# EAGLE library part 2287402-1 (library LGA1151)
Conn LGA Socket SKT 1151 POS 0.914mm Solder ST SMD Tray
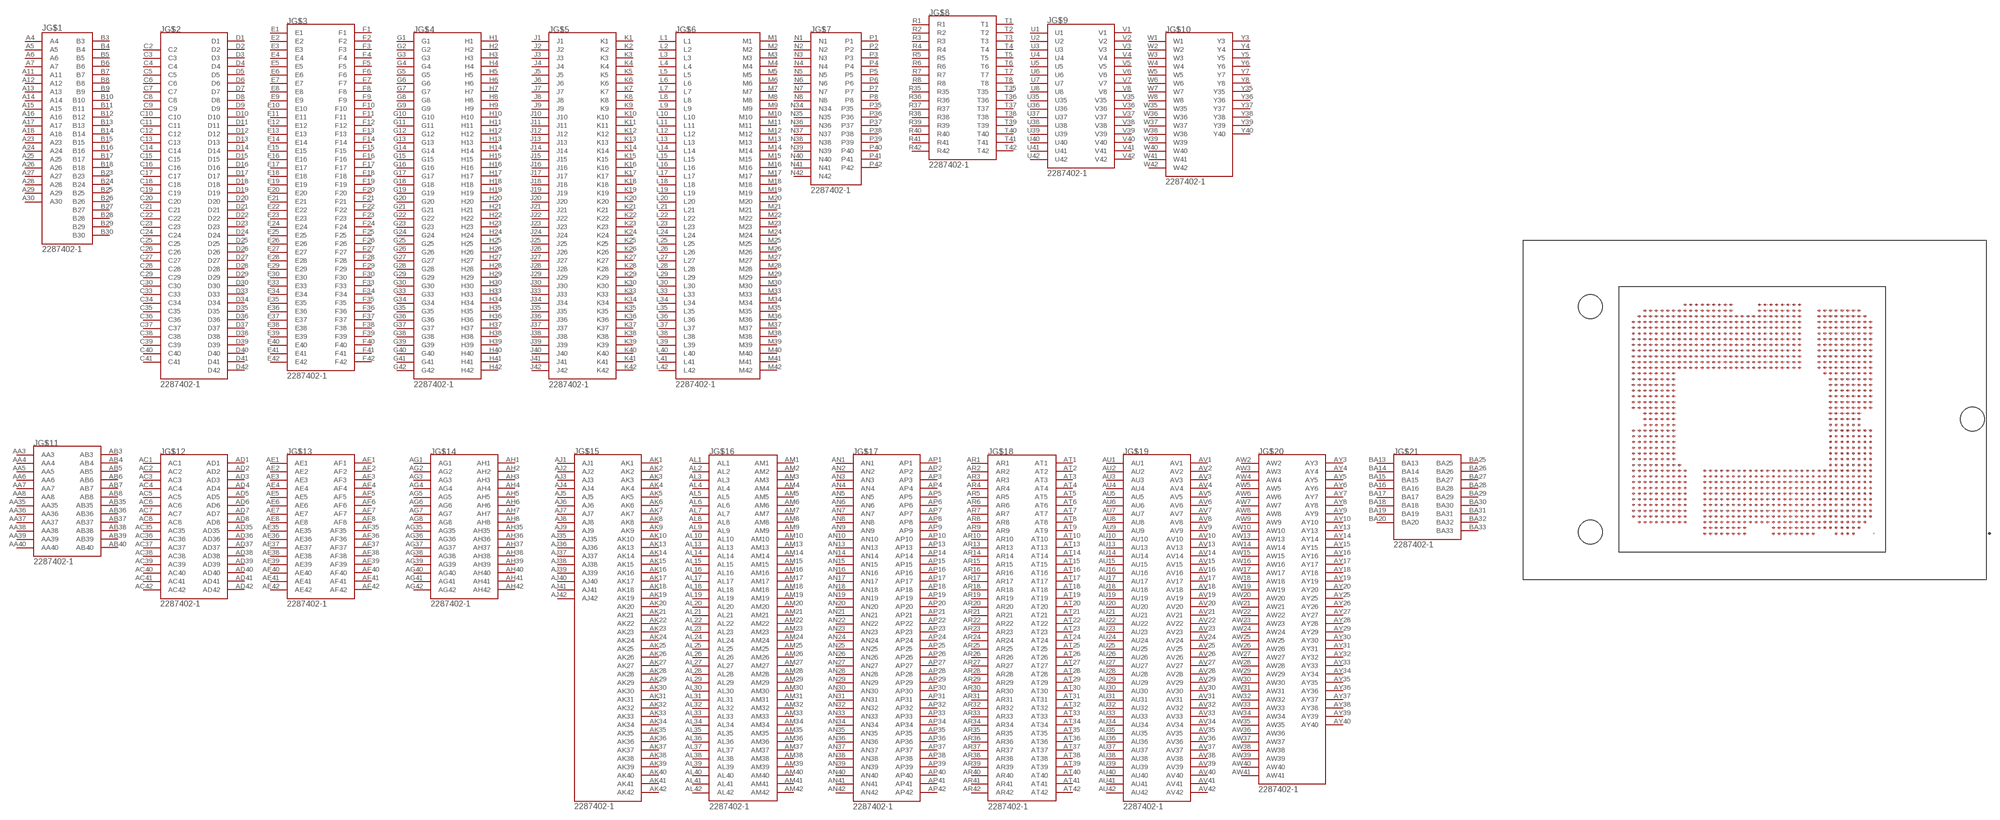
[diagram p0: symbol with the pads of TE_2287402-1; footprint TE_2287402-1]

Designator prefix J; gates G$1=2287402-1_SECTION1 G$2=2287402-1_SECTION2 G$3=2287402-1_SECTION3 G$4=2287402-1_SECTION4 G$5=2287402-1_SECTION5 G$6=2287402-1_SECTION6 G$7=2287402-1_SECTION7 G$8=2287402-1_SECTION8 G$9=2287402-1_SECTION9 G$10=2287402-1_SECTION10 G$11=2287402-1_SECTION11 G$12=2287402-1_SECTION12 G$13=2287402-1_SECTION13 G$14=2287402-1_SECTION14 G$15=2287402-1_SECTION15 G$16=2287402-1_SECTION16 G$17=2287402-1_SECTION17 G$18=2287402-1_SECTION18 G$19=2287402-1_SECTION19 G$20=2287402-1_SECTION20 G$21=2287402-1_SECTION21

## 2287402-1 (Availability: Unavailable; Centerline_Pitch: .9144 mm[.036 in]; Comment: 2287402-1; Description: SOCKET ASSY LGA1151, 0.38AU; EU_RoHS_Compliance: Compliant; MF: TE Connectivity; MP: 2287402-1; Number_of_Positions: 1151; Package: LGA-1151 TE Connectivity; Price: None; Product_Type: Socket; TE_purchase_URL: https://www.te.com/usa-en/product-2287402-1.html?te_bu=Cor&te_type=disp&te_campaign=seda_glo_cor-seda-global-disp-prtnr-fy19-seda-model-bom-cta_sma-317_1&elqCampaignId=32493)  [TE_2287402-1]
A4  G$1:A4  pas
A5  G$1:A5  pas
A6  G$1:A6  pas
A7  G$1:A7  pas
A11  G$1:A11  pas
A12  G$1:A12  pas
A13  G$1:A13  pas
A14  G$1:A14  pas
A15  G$1:A15  pas
A16  G$1:A16  pas
A17  G$1:A17  pas
A18  G$1:A18  pas
A23  G$1:A23  pas
A24  G$1:A24  pas
A25  G$1:A25  pas
A26  G$1:A26  pas
A27  G$1:A27  pas
A28  G$1:A28  pas
A29  G$1:A29  pas
A30  G$1:A30  pas
AA3  G$11:AA3  pas
AA4  G$11:AA4  pas
AA5  G$11:AA5  pas
AA6  G$11:AA6  pas
AA7  G$11:AA7  pas
AA8  G$11:AA8  pas
AA35  G$11:AA35  pas
AA36  G$11:AA36  pas
AA37  G$11:AA37  pas
AA38  G$11:AA38  pas
AA39  G$11:AA39  pas
AA40  G$11:AA40  pas
AB3  G$11:AB3  pas
AB4  G$11:AB4  pas
AB5  G$11:AB5  pas
AB6  G$11:AB6  pas
AB7  G$11:AB7  pas
AB8  G$11:AB8  pas
AB35  G$11:AB35  pas
AB36  G$11:AB36  pas
AB37  G$11:AB37  pas
AB38  G$11:AB38  pas
AB39  G$11:AB39  pas
AB40  G$11:AB40  pas
AC1  G$12:AC1  pas
AC2  G$12:AC2  pas
AC3  G$12:AC3  pas
AC4  G$12:AC4  pas
AC5  G$12:AC5  pas
AC6  G$12:AC6  pas
AC7  G$12:AC7  pas
AC8  G$12:AC8  pas
AC35  G$12:AC35  pas
AC36  G$12:AC36  pas
AC37  G$12:AC37  pas
AC38  G$12:AC38  pas
AC39  G$12:AC39  pas
AC40  G$12:AC40  pas
AC41  G$12:AC41  pas
AC42  G$12:AC42  pas
AD1  G$12:AD1  pas
AD2  G$12:AD2  pas
AD3  G$12:AD3  pas
AD4  G$12:AD4  pas
AD5  G$12:AD5  pas
AD6  G$12:AD6  pas
AD7  G$12:AD7  pas
AD8  G$12:AD8  pas
AD35  G$12:AD35  pas
AD36  G$12:AD36  pas
AD37  G$12:AD37  pas
AD38  G$12:AD38  pas
AD39  G$12:AD39  pas
AD40  G$12:AD40  pas
AD41  G$12:AD41  pas
AD42  G$12:AD42  pas
AE1  G$13:AE1  pas
AE2  G$13:AE2  pas
AE3  G$13:AE3  pas
AE4  G$13:AE4  pas
AE5  G$13:AE5  pas
AE6  G$13:AE6  pas
AE7  G$13:AE7  pas
AE8  G$13:AE8  pas
AE35  G$13:AE35  pas
AE36  G$13:AE36  pas
AE37  G$13:AE37  pas
AE38  G$13:AE38  pas
AE39  G$13:AE39  pas
AE40  G$13:AE40  pas
AE41  G$13:AE41  pas
AE42  G$13:AE42  pas
AF1  G$13:AF1  pas
AF2  G$13:AF2  pas
AF3  G$13:AF3  pas
AF4  G$13:AF4  pas
AF5  G$13:AF5  pas
AF6  G$13:AF6  pas
AF7  G$13:AF7  pas
AF8  G$13:AF8  pas
AF35  G$13:AF35  pas
AF36  G$13:AF36  pas
AF37  G$13:AF37  pas
AF38  G$13:AF38  pas
AF39  G$13:AF39  pas
AF40  G$13:AF40  pas
AF41  G$13:AF41  pas
AF42  G$13:AF42  pas
AG1  G$14:AG1  pwr
AG2  G$14:AG2  pwr
AG3  G$14:AG3  pwr
AG4  G$14:AG4  pwr
AG5  G$14:AG5  pwr
AG6  G$14:AG6  pwr
AG7  G$14:AG7  pwr
AG8  G$14:AG8  pwr
AG35  G$14:AG35  pwr
AG36  G$14:AG36  pwr
AG37  G$14:AG37  pwr
AG38  G$14:AG38  pwr
AG39  G$14:AG39  pwr
AG40  G$14:AG40  pwr
AG41  G$14:AG41  pwr
AG42  G$14:AG42  pwr
AH1  G$14:AH1  pwr
AH2  G$14:AH2  pwr
AH3  G$14:AH3  pwr
AH4  G$14:AH4  pwr
AH5  G$14:AH5  pwr
AH6  G$14:AH6  pwr
AH7  G$14:AH7  pwr
AH8  G$14:AH8  pwr
AH35  G$14:AH35  pwr
AH36  G$14:AH36  pwr
AH37  G$14:AH37  pwr
AH38  G$14:AH38  pwr
AH39  G$14:AH39  pwr
AH40  G$14:AH40  pwr
AH41  G$14:AH41  pwr
AH42  G$14:AH42  pwr
AJ1  G$15:AJ1  pas
AJ2  G$15:AJ2  pas
AJ3  G$15:AJ3  pas
AJ4  G$15:AJ4  pas
AJ5  G$15:AJ5  pas
AJ6  G$15:AJ6  pas
AJ7  G$15:AJ7  pas
AJ8  G$15:AJ8  pas
AJ9  G$15:AJ9  pas
AJ35  G$15:AJ35  pas
AJ36  G$15:AJ36  pas
AJ37  G$15:AJ37  pas
AJ38  G$15:AJ38  pas
AJ39  G$15:AJ39  pas
AJ40  G$15:AJ40  pas
AJ41  G$15:AJ41  pas
AJ42  G$15:AJ42  pas
AK1  G$15:AK1  pas
AK2  G$15:AK2  pas
AK3  G$15:AK3  pas
AK4  G$15:AK4  pas
AK5  G$15:AK5  pas
AK6  G$15:AK6  pas
AK7  G$15:AK7  pas
AK8  G$15:AK8  pas
AK9  G$15:AK9  pas
AK10  G$15:AK10  pas
AK13  G$15:AK13  pas
AK14  G$15:AK14  pas
AK15  G$15:AK15  pas
AK16  G$15:AK16  pas
AK17  G$15:AK17  pas
AK18  G$15:AK18  pas
AK19  G$15:AK19  pas
AK20  G$15:AK20  pas
AK21  G$15:AK21  pas
AK22  G$15:AK22  pas
AK23  G$15:AK23  pas
AK24  G$15:AK24  pas
AK25  G$15:AK25  pas
AK26  G$15:AK26  pas
AK27  G$15:AK27  pas
AK28  G$15:AK28  pas
AK29  G$15:AK29  pas
AK30  G$15:AK30  pas
AK31  G$15:AK31  pas
AK32  G$15:AK32  pas
AK33  G$15:AK33  pas
AK34  G$15:AK34  pas
AK35  G$15:AK35  pas
AK36  G$15:AK36  pas
AK37  G$15:AK37  pas
AK38  G$15:AK38  pas
AK39  G$15:AK39  pas
AK40  G$15:AK40  pas
AK41  G$15:AK41  pas
AK42  G$15:AK42  pas
AL1  G$16:AL1  pas
AL2  G$16:AL2  pas
AL3  G$16:AL3  pas
AL4  G$16:AL4  pas
AL5  G$16:AL5  pas
AL6  G$16:AL6  pas
AL7  G$16:AL7  pas
AL8  G$16:AL8  pas
AL9  G$16:AL9  pas
AL10  G$16:AL10  pas
AL13  G$16:AL13  pas
AL14  G$16:AL14  pas
AL15  G$16:AL15  pas
AL16  G$16:AL16  pas
AL17  G$16:AL17  pas
AL18  G$16:AL18  pas
AL19  G$16:AL19  pas
AL20  G$16:AL20  pas
AL21  G$16:AL21  pas
AL22  G$16:AL22  pas
AL23  G$16:AL23  pas
AL24  G$16:AL24  pas
AL25  G$16:AL25  pas
AL26  G$16:AL26  pas
AL27  G$16:AL27  pas
AL28  G$16:AL28  pas
AL29  G$16:AL29  pas
AL30  G$16:AL30  pas
AL31  G$16:AL31  pas
AL32  G$16:AL32  pas
AL33  G$16:AL33  pas
AL34  G$16:AL34  pas
AL35  G$16:AL35  pas
AL36  G$16:AL36  pas
AL37  G$16:AL37  pas
AL38  G$16:AL38  pas
AL39  G$16:AL39  pas
AL40  G$16:AL40  pas
AL41  G$16:AL41  pas
AL42  G$16:AL42  pas
AM1  G$16:AM1  pas
AM2  G$16:AM2  pas
AM3  G$16:AM3  pas
AM4  G$16:AM4  pas
AM5  G$16:AM5  pas
AM6  G$16:AM6  pas
AM7  G$16:AM7  pas
AM8  G$16:AM8  pas
AM9  G$16:AM9  pas
AM10  G$16:AM10  pas
AM13  G$16:AM13  pas
AM14  G$16:AM14  pas
AM15  G$16:AM15  pas
AM16  G$16:AM16  pas
AM17  G$16:AM17  pas
AM18  G$16:AM18  pas
AM19  G$16:AM19  pas
AM20  G$16:AM20  pas
AM21  G$16:AM21  pas
AM22  G$16:AM22  pas
AM23  G$16:AM23  pas
AM24  G$16:AM24  pas
AM25  G$16:AM25  pas
AM26  G$16:AM26  pas
AM27  G$16:AM27  pas
AM28  G$16:AM28  pas
AM29  G$16:AM29  pas
AM30  G$16:AM30  pas
AM31  G$16:AM31  pas
AM32  G$16:AM32  pas
AM33  G$16:AM33  pas
AM34  G$16:AM34  pas
AM35  G$16:AM35  pas
AM36  G$16:AM36  pas
AM37  G$16:AM37  pas
AM38  G$16:AM38  pas
AM39  G$16:AM39  pas
AM40  G$16:AM40  pas
AM41  G$16:AM41  pas
AM42  G$16:AM42  pas
AN1  G$17:AN1  pas
AN2  G$17:AN2  pas
AN3  G$17:AN3  pas
AN4  G$17:AN4  pas
AN5  G$17:AN5  pas
AN6  G$17:AN6  pas
AN7  G$17:AN7  pas
AN8  G$17:AN8  pas
AN9  G$17:AN9  pas
AN10  G$17:AN10  pas
AN13  G$17:AN13  pas
AN14  G$17:AN14  pas
AN15  G$17:AN15  pas
AN16  G$17:AN16  pas
AN17  G$17:AN17  pas
AN18  G$17:AN18  pas
AN19  G$17:AN19  pas
AN20  G$17:AN20  pas
AN21  G$17:AN21  pas
AN22  G$17:AN22  pas
AN23  G$17:AN23  pas
AN24  G$17:AN24  pas
AN25  G$17:AN25  pas
AN26  G$17:AN26  pas
AN27  G$17:AN27  pas
AN28  G$17:AN28  pas
AN29  G$17:AN29  pas
AN30  G$17:AN30  pas
AN31  G$17:AN31  pas
AN32  G$17:AN32  pas
AN33  G$17:AN33  pas
AN34  G$17:AN34  pas
AN35  G$17:AN35  pas
AN36  G$17:AN36  pas
AN37  G$17:AN37  pas
AN38  G$17:AN38  pas
AN39  G$17:AN39  pas
AN40  G$17:AN40  pas
AN41  G$17:AN41  pas
AN42  G$17:AN42  pas
AP1  G$17:AP1  pas
AP2  G$17:AP2  pas
AP3  G$17:AP3  pas
AP4  G$17:AP4  pas
AP5  G$17:AP5  pas
AP6  G$17:AP6  pas
AP7  G$17:AP7  pas
AP8  G$17:AP8  pas
AP9  G$17:AP9  pas
AP10  G$17:AP10  pas
AP13  G$17:AP13  pas
AP14  G$17:AP14  pas
AP15  G$17:AP15  pas
AP16  G$17:AP16  pas
AP17  G$17:AP17  pas
AP18  G$17:AP18  pas
AP19  G$17:AP19  pas
AP20  G$17:AP20  pas
AP21  G$17:AP21  pas
AP22  G$17:AP22  pas
AP23  G$17:AP23  pas
AP24  G$17:AP24  pas
AP25  G$17:AP25  pas
AP26  G$17:AP26  pas
AP27  G$17:AP27  pas
AP28  G$17:AP28  pas
AP29  G$17:AP29  pas
AP30  G$17:AP30  pas
AP31  G$17:AP31  pas
AP32  G$17:AP32  pas
AP33  G$17:AP33  pas
AP34  G$17:AP34  pas
AP35  G$17:AP35  pas
AP36  G$17:AP36  pas
AP37  G$17:AP37  pas
AP38  G$17:AP38  pas
AP39  G$17:AP39  pas
AP40  G$17:AP40  pas
AP41  G$17:AP41  pas
AP42  G$17:AP42  pas
AR1  G$18:AR1  pas
AR2  G$18:AR2  pas
AR3  G$18:AR3  pas
AR4  G$18:AR4  pas
AR5  G$18:AR5  pas
AR6  G$18:AR6  pas
AR7  G$18:AR7  pas
AR8  G$18:AR8  pas
AR9  G$18:AR9  pas
AR10  G$18:AR10  pas
AR13  G$18:AR13  pas
AR14  G$18:AR14  pas
AR15  G$18:AR15  pas
AR16  G$18:AR16  pas
AR17  G$18:AR17  pas
AR18  G$18:AR18  pas
AR19  G$18:AR19  pas
AR20  G$18:AR20  pas
AR21  G$18:AR21  pas
AR22  G$18:AR22  pas
AR23  G$18:AR23  pas
AR24  G$18:AR24  pas
AR25  G$18:AR25  pas
AR26  G$18:AR26  pas
AR27  G$18:AR27  pas
AR28  G$18:AR28  pas
AR29  G$18:AR29  pas
AR30  G$18:AR30  pas
AR31  G$18:AR31  pas
AR32  G$18:AR32  pas
AR33  G$18:AR33  pas
AR34  G$18:AR34  pas
AR35  G$18:AR35  pas
AR36  G$18:AR36  pas
AR37  G$18:AR37  pas
AR38  G$18:AR38  pas
AR39  G$18:AR39  pas
AR40  G$18:AR40  pas
AR41  G$18:AR41  pas
AR42  G$18:AR42  pas
AT1  G$18:AT1  pas
AT2  G$18:AT2  pas
AT3  G$18:AT3  pas
AT4  G$18:AT4  pas
AT5  G$18:AT5  pas
AT6  G$18:AT6  pas
AT7  G$18:AT7  pas
AT8  G$18:AT8  pas
AT9  G$18:AT9  pas
AT10  G$18:AT10  pas
AT13  G$18:AT13  pas
AT14  G$18:AT14  pas
AT15  G$18:AT15  pas
AT16  G$18:AT16  pas
AT17  G$18:AT17  pas
AT18  G$18:AT18  pas
AT19  G$18:AT19  pas
AT20  G$18:AT20  pas
AT21  G$18:AT21  pas
AT22  G$18:AT22  pas
AT23  G$18:AT23  pas
AT24  G$18:AT24  pas
AT25  G$18:AT25  pas
AT26  G$18:AT26  pas
AT27  G$18:AT27  pas
AT28  G$18:AT28  pas
AT29  G$18:AT29  pas
AT30  G$18:AT30  pas
AT31  G$18:AT31  pas
AT32  G$18:AT32  pas
AT33  G$18:AT33  pas
AT34  G$18:AT34  pas
AT35  G$18:AT35  pas
AT36  G$18:AT36  pas
AT37  G$18:AT37  pas
AT38  G$18:AT38  pas
AT39  G$18:AT39  pas
AT40  G$18:AT40  pas
AT41  G$18:AT41  pas
AT42  G$18:AT42  pas
AU1  G$19:AU1  pas
AU2  G$19:AU2  pas
AU3  G$19:AU3  pas
AU4  G$19:AU4  pas
AU5  G$19:AU5  pas
AU6  G$19:AU6  pas
AU7  G$19:AU7  pas
AU8  G$19:AU8  pas
AU9  G$19:AU9  pas
AU10  G$19:AU10  pas
AU13  G$19:AU13  pas
AU14  G$19:AU14  pas
AU15  G$19:AU15  pas
AU16  G$19:AU16  pas
AU17  G$19:AU17  pas
AU18  G$19:AU18  pas
AU19  G$19:AU19  pas
AU20  G$19:AU20  pas
AU21  G$19:AU21  pas
AU22  G$19:AU22  pas
AU23  G$19:AU23  pas
AU24  G$19:AU24  pas
AU25  G$19:AU25  pas
AU26  G$19:AU26  pas
AU27  G$19:AU27  pas
AU28  G$19:AU28  pas
AU29  G$19:AU29  pas
AU30  G$19:AU30  pas
AU31  G$19:AU31  pas
AU32  G$19:AU32  pas
AU33  G$19:AU33  pas
AU34  G$19:AU34  pas
AU35  G$19:AU35  pas
AU36  G$19:AU36  pas
AU37  G$19:AU37  pas
AU38  G$19:AU38  pas
AU39  G$19:AU39  pas
AU40  G$19:AU40  pas
AU41  G$19:AU41  pas
AU42  G$19:AU42  pas
AV1  G$19:AV1  pas
AV2  G$19:AV2  pas
AV3  G$19:AV3  pas
AV4  G$19:AV4  pas
AV5  G$19:AV5  pas
AV6  G$19:AV6  pas
AV7  G$19:AV7  pas
AV8  G$19:AV8  pas
AV9  G$19:AV9  pas
AV10  G$19:AV10  pas
AV13  G$19:AV13  pas
AV14  G$19:AV14  pas
AV15  G$19:AV15  pas
AV16  G$19:AV16  pas
AV17  G$19:AV17  pas
AV18  G$19:AV18  pas
AV19  G$19:AV19  pas
AV20  G$19:AV20  pas
AV21  G$19:AV21  pas
AV22  G$19:AV22  pas
AV23  G$19:AV23  pas
AV24  G$19:AV24  pas
AV25  G$19:AV25  pas
AV26  G$19:AV26  pas
AV27  G$19:AV27  pas
AV28  G$19:AV28  pas
AV29  G$19:AV29  pas
AV30  G$19:AV30  pas
AV31  G$19:AV31  pas
AV32  G$19:AV32  pas
AV33  G$19:AV33  pas
AV34  G$19:AV34  pas
AV35  G$19:AV35  pas
AV36  G$19:AV36  pas
AV37  G$19:AV37  pas
AV38  G$19:AV38  pas
AV39  G$19:AV39  pas
AV40  G$19:AV40  pas
AV41  G$19:AV41  pas
AV42  G$19:AV42  pas
AW2  G$20:AW2  pas
AW3  G$20:AW3  pas
AW4  G$20:AW4  pas
AW5  G$20:AW5  pas
AW6  G$20:AW6  pas
AW7  G$20:AW7  pas
AW8  G$20:AW8  pas
AW9  G$20:AW9  pas
AW10  G$20:AW10  pas
AW13  G$20:AW13  pas
AW14  G$20:AW14  pas
AW15  G$20:AW15  pas
AW16  G$20:AW16  pas
AW17  G$20:AW17  pas
AW18  G$20:AW18  pas
AW19  G$20:AW19  pas
AW20  G$20:AW20  pas
AW21  G$20:AW21  pas
AW22  G$20:AW22  pas
AW23  G$20:AW23  pas
AW24  G$20:AW24  pas
AW25  G$20:AW25  pas
AW26  G$20:AW26  pas
AW27  G$20:AW27  pas
AW28  G$20:AW28  pas
AW29  G$20:AW29  pas
AW30  G$20:AW30  pas
AW31  G$20:AW31  pas
AW32  G$20:AW32  pas
AW33  G$20:AW33  pas
AW34  G$20:AW34  pas
AW35  G$20:AW35  pas
AW36  G$20:AW36  pas
AW37  G$20:AW37  pas
AW38  G$20:AW38  pas
AW39  G$20:AW39  pas
AW40  G$20:AW40  pas
AW41  G$20:AW41  pas
AY3  G$20:AY3  pas
AY4  G$20:AY4  pas
AY5  G$20:AY5  pas
AY6  G$20:AY6  pas
AY7  G$20:AY7  pas
AY8  G$20:AY8  pas
AY9  G$20:AY9  pas
AY10  G$20:AY10  pas
AY13  G$20:AY13  pas
AY14  G$20:AY14  pas
AY15  G$20:AY15  pas
AY16  G$20:AY16  pas
AY17  G$20:AY17  pas
AY18  G$20:AY18  pas
AY19  G$20:AY19  pas
AY20  G$20:AY20  pas
AY25  G$20:AY25  pas
AY26  G$20:AY26  pas
AY27  G$20:AY27  pas
AY28  G$20:AY28  pas
AY29  G$20:AY29  pas
AY30  G$20:AY30  pas
AY31  G$20:AY31  pas
AY32  G$20:AY32  pas
AY33  G$20:AY33  pas
AY34  G$20:AY34  pas
AY35  G$20:AY35  pas
AY36  G$20:AY36  pas
AY37  G$20:AY37  pas
AY38  G$20:AY38  pas
AY39  G$20:AY39  pas
AY40  G$20:AY40  pas
B3  G$1:B3  pas
B4  G$1:B4  pas
B5  G$1:B5  pas
B6  G$1:B6  pas
B7  G$1:B7  pas
B8  G$1:B8  pas
B9  G$1:B9  pas
B10  G$1:B10  pas
B11  G$1:B11  pas
B12  G$1:B12  pas
B13  G$1:B13  pas
B14  G$1:B14  pas
B15  G$1:B15  pas
B16  G$1:B16  pas
B17  G$1:B17  pas
B18  G$1:B18  pas
B23  G$1:B23  pas
B24  G$1:B24  pas
B25  G$1:B25  pas
B26  G$1:B26  pas
B27  G$1:B27  pas
B28  G$1:B28  pas
B29  G$1:B29  pas
B30  G$1:B30  pas
BA13  G$21:BA13  pas
BA14  G$21:BA14  pas
BA15  G$21:BA15  pas
BA16  G$21:BA16  pas
BA17  G$21:BA17  pas
BA18  G$21:BA18  pas
BA19  G$21:BA19  pas
BA20  G$21:BA20  pas
BA25  G$21:BA25  pas
BA26  G$21:BA26  pas
BA27  G$21:BA27  pas
BA28  G$21:BA28  pas
BA29  G$21:BA29  pas
BA30  G$21:BA30  pas
BA31  G$21:BA31  pas
BA32  G$21:BA32  pas
BA33  G$21:BA33  pas
C2  G$2:C2  pas
C3  G$2:C3  pas
C4  G$2:C4  pas
C5  G$2:C5  pas
C6  G$2:C6  pas
C7  G$2:C7  pas
C8  G$2:C8  pas
C9  G$2:C9  pas
C10  G$2:C10  pas
C11  G$2:C11  pas
C12  G$2:C12  pas
C13  G$2:C13  pas
C14  G$2:C14  pas
C15  G$2:C15  pas
C16  G$2:C16  pas
C17  G$2:C17  pas
C18  G$2:C18  pas
C19  G$2:C19  pas
C20  G$2:C20  pas
C21  G$2:C21  pas
C22  G$2:C22  pas
C23  G$2:C23  pas
C24  G$2:C24  pas
C25  G$2:C25  pas
C26  G$2:C26  pas
C27  G$2:C27  pas
C28  G$2:C28  pas
C29  G$2:C29  pas
C30  G$2:C30  pas
C33  G$2:C33  pas
C34  G$2:C34  pas
C35  G$2:C35  pas
C36  G$2:C36  pas
C37  G$2:C37  pas
C38  G$2:C38  pas
C39  G$2:C39  pas
C40  G$2:C40  pas
C41  G$2:C41  pas
D1  G$2:D1  pas
D2  G$2:D2  pas
D3  G$2:D3  pas
D4  G$2:D4  pas
D5  G$2:D5  pas
D6  G$2:D6  pas
D7  G$2:D7  pas
D8  G$2:D8  pas
D9  G$2:D9  pas
D10  G$2:D10  pas
D11  G$2:D11  pas
D12  G$2:D12  pas
D13  G$2:D13  pas
D14  G$2:D14  pas
D15  G$2:D15  pas
D16  G$2:D16  pas
D17  G$2:D17  pas
D18  G$2:D18  pas
D19  G$2:D19  pas
D20  G$2:D20  pas
D21  G$2:D21  pas
D22  G$2:D22  pas
D23  G$2:D23  pas
D24  G$2:D24  pas
D25  G$2:D25  pas
D26  G$2:D26  pas
D27  G$2:D27  pas
D28  G$2:D28  pas
D29  G$2:D29  pas
D30  G$2:D30  pas
D33  G$2:D33  pas
D34  G$2:D34  pas
D35  G$2:D35  pas
D36  G$2:D36  pas
D37  G$2:D37  pas
D38  G$2:D38  pas
D39  G$2:D39  pas
D40  G$2:D40  pas
D41  G$2:D41  pas
D42  G$2:D42  pas
E1  G$3:E1  pas
E2  G$3:E2  pas
E3  G$3:E3  pas
E4  G$3:E4  pas
E5  G$3:E5  pas
E6  G$3:E6  pas
E7  G$3:E7  pas
E8  G$3:E8  pas
E9  G$3:E9  pas
E10  G$3:E10  pas
E11  G$3:E11  pas
E12  G$3:E12  pas
E13  G$3:E13  pas
E14  G$3:E14  pas
E15  G$3:E15  pas
E16  G$3:E16  pas
E17  G$3:E17  pas
E18  G$3:E18  pas
E19  G$3:E19  pas
E20  G$3:E20  pas
E21  G$3:E21  pas
E22  G$3:E22  pas
E23  G$3:E23  pas
E24  G$3:E24  pas
E25  G$3:E25  pas
E26  G$3:E26  pas
E27  G$3:E27  pas
E28  G$3:E28  pas
E29  G$3:E29  pas
E30  G$3:E30  pas
E33  G$3:E33  pas
E34  G$3:E34  pas
E35  G$3:E35  pas
E36  G$3:E36  pas
E37  G$3:E37  pas
E38  G$3:E38  pas
E39  G$3:E39  pas
E40  G$3:E40  pas
E41  G$3:E41  pas
E42  G$3:E42  pas
F1  G$3:F1  pas
F2  G$3:F2  pas
F3  G$3:F3  pas
F4  G$3:F4  pas
F5  G$3:F5  pas
F6  G$3:F6  pas
F7  G$3:F7  pas
F8  G$3:F8  pas
F9  G$3:F9  pas
F10  G$3:F10  pas
F11  G$3:F11  pas
F12  G$3:F12  pas
F13  G$3:F13  pas
F14  G$3:F14  pas
F15  G$3:F15  pas
F16  G$3:F16  pas
F17  G$3:F17  pas
F18  G$3:F18  pas
F19  G$3:F19  pas
F20  G$3:F20  pas
F21  G$3:F21  pas
F22  G$3:F22  pas
F23  G$3:F23  pas
F24  G$3:F24  pas
F25  G$3:F25  pas
F26  G$3:F26  pas
F27  G$3:F27  pas
F28  G$3:F28  pas
F29  G$3:F29  pas
F30  G$3:F30  pas
F33  G$3:F33  pas
F34  G$3:F34  pas
F35  G$3:F35  pas
F36  G$3:F36  pas
F37  G$3:F37  pas
F38  G$3:F38  pas
F39  G$3:F39  pas
F40  G$3:F40  pas
F41  G$3:F41  pas
F42  G$3:F42  pas
G1  G$4:G1  pas
G2  G$4:G2  pas
G3  G$4:G3  pas
G4  G$4:G4  pas
G5  G$4:G5  pas
G6  G$4:G6  pas
G7  G$4:G7  pas
G8  G$4:G8  pas
G9  G$4:G9  pas
G10  G$4:G10  pas
G11  G$4:G11  pas
G12  G$4:G12  pas
G13  G$4:G13  pas
G14  G$4:G14  pas
G15  G$4:G15  pas
G16  G$4:G16  pas
G17  G$4:G17  pas
G18  G$4:G18  pas
G19  G$4:G19  pas
G20  G$4:G20  pas
G21  G$4:G21  pas
G22  G$4:G22  pas
G23  G$4:G23  pas
G24  G$4:G24  pas
G25  G$4:G25  pas
G26  G$4:G26  pas
G27  G$4:G27  pas
G28  G$4:G28  pas
G29  G$4:G29  pas
G30  G$4:G30  pas
G33  G$4:G33  pas
G34  G$4:G34  pas
G35  G$4:G35  pas
G36  G$4:G36  pas
G37  G$4:G37  pas
G38  G$4:G38  pas
G39  G$4:G39  pas
G40  G$4:G40  pas
G41  G$4:G41  pas
G42  G$4:G42  pas
H1  G$4:H1  pas
H2  G$4:H2  pas
H3  G$4:H3  pas
H4  G$4:H4  pas
H5  G$4:H5  pas
H6  G$4:H6  pas
H7  G$4:H7  pas
H8  G$4:H8  pas
H9  G$4:H9  pas
H10  G$4:H10  pas
H11  G$4:H11  pas
H12  G$4:H12  pas
H13  G$4:H13  pas
H14  G$4:H14  pas
H15  G$4:H15  pas
H16  G$4:H16  pas
H17  G$4:H17  pas
H18  G$4:H18  pas
H19  G$4:H19  pas
H20  G$4:H20  pas
H21  G$4:H21  pas
H22  G$4:H22  pas
H23  G$4:H23  pas
H24  G$4:H24  pas
H25  G$4:H25  pas
H26  G$4:H26  pas
H27  G$4:H27  pas
H28  G$4:H28  pas
H29  G$4:H29  pas
H30  G$4:H30  pas
H33  G$4:H33  pas
H34  G$4:H34  pas
H35  G$4:H35  pas
H36  G$4:H36  pas
H37  G$4:H37  pas
H38  G$4:H38  pas
H39  G$4:H39  pas
H40  G$4:H40  pas
H41  G$4:H41  pas
H42  G$4:H42  pas
J1  G$5:J1  pas
J2  G$5:J2  pas
J3  G$5:J3  pas
J4  G$5:J4  pas
J5  G$5:J5  pas
J6  G$5:J6  pas
J7  G$5:J7  pas
J8  G$5:J8  pas
J9  G$5:J9  pas
J10  G$5:J10  pas
J11  G$5:J11  pas
J12  G$5:J12  pas
J13  G$5:J13  pas
J14  G$5:J14  pas
J15  G$5:J15  pas
J16  G$5:J16  pas
J17  G$5:J17  pas
J18  G$5:J18  pas
J19  G$5:J19  pas
J20  G$5:J20  pas
J21  G$5:J21  pas
J22  G$5:J22  pas
J23  G$5:J23  pas
J24  G$5:J24  pas
J25  G$5:J25  pas
J26  G$5:J26  pas
J27  G$5:J27  pas
J28  G$5:J28  pas
J29  G$5:J29  pas
J30  G$5:J30  pas
J33  G$5:J33  pas
J34  G$5:J34  pas
J35  G$5:J35  pas
J36  G$5:J36  pas
J37  G$5:J37  pas
J38  G$5:J38  pas
J39  G$5:J39  pas
J40  G$5:J40  pas
J41  G$5:J41  pas
J42  G$5:J42  pas
K1  G$5:K1  pas
K2  G$5:K2  pas
K3  G$5:K3  pas
K4  G$5:K4  pas
K5  G$5:K5  pas
K6  G$5:K6  pas
K7  G$5:K7  pas
K8  G$5:K8  pas
K9  G$5:K9  pas
K10  G$5:K10  pas
K11  G$5:K11  pas
K12  G$5:K12  pas
K13  G$5:K13  pas
K14  G$5:K14  pas
K15  G$5:K15  pas
K16  G$5:K16  pas
K17  G$5:K17  pas
K18  G$5:K18  pas
K19  G$5:K19  pas
K20  G$5:K20  pas
K21  G$5:K21  pas
K22  G$5:K22  pas
K23  G$5:K23  pas
K24  G$5:K24  pas
K25  G$5:K25  pas
K26  G$5:K26  pas
K27  G$5:K27  pas
K28  G$5:K28  pas
K29  G$5:K29  pas
K30  G$5:K30  pas
K33  G$5:K33  pas
K34  G$5:K34  pas
K35  G$5:K35  pas
K36  G$5:K36  pas
K37  G$5:K37  pas
K38  G$5:K38  pas
K39  G$5:K39  pas
K40  G$5:K40  pas
K41  G$5:K41  pas
K42  G$5:K42  pas
L1  G$6:L1  pas
L2  G$6:L2  pas
L3  G$6:L3  pas
L4  G$6:L4  pas
L5  G$6:L5  pas
L6  G$6:L6  pas
L7  G$6:L7  pas
L8  G$6:L8  pas
L9  G$6:L9  pas
L10  G$6:L10  pas
L11  G$6:L11  pas
L12  G$6:L12  pas
L13  G$6:L13  pas
L14  G$6:L14  pas
L15  G$6:L15  pas
L16  G$6:L16  pas
L17  G$6:L17  pas
L18  G$6:L18  pas
L19  G$6:L19  pas
L20  G$6:L20  pas
L21  G$6:L21  pas
L22  G$6:L22  pas
L23  G$6:L23  pas
L24  G$6:L24  pas
L25  G$6:L25  pas
L26  G$6:L26  pas
L27  G$6:L27  pas
L28  G$6:L28  pas
L29  G$6:L29  pas
L30  G$6:L30  pas
L33  G$6:L33  pas
L34  G$6:L34  pas
L35  G$6:L35  pas
L36  G$6:L36  pas
L37  G$6:L37  pas
L38  G$6:L38  pas
L39  G$6:L39  pas
L40  G$6:L40  pas
L41  G$6:L41  pas
L42  G$6:L42  pas
M1  G$6:M1  pas
M2  G$6:M2  pas
M3  G$6:M3  pas
M4  G$6:M4  pas
M5  G$6:M5  pas
M6  G$6:M6  pas
M7  G$6:M7  pas
M8  G$6:M8  pas
M9  G$6:M9  pas
M10  G$6:M10  pas
M11  G$6:M11  pas
M12  G$6:M12  pas
M13  G$6:M13  pas
M14  G$6:M14  pas
M15  G$6:M15  pas
M16  G$6:M16  pas
M17  G$6:M17  pas
M18  G$6:M18  pas
M19  G$6:M19  pas
M20  G$6:M20  pas
M21  G$6:M21  pas
M22  G$6:M22  pas
M23  G$6:M23  pas
M24  G$6:M24  pas
M25  G$6:M25  pas
M26  G$6:M26  pas
M27  G$6:M27  pas
M28  G$6:M28  pas
M29  G$6:M29  pas
M30  G$6:M30  pas
M33  G$6:M33  pas
M34  G$6:M34  pas
M35  G$6:M35  pas
M36  G$6:M36  pas
M37  G$6:M37  pas
M38  G$6:M38  pas
M39  G$6:M39  pas
M40  G$6:M40  pas
M41  G$6:M41  pas
M42  G$6:M42  pas
N1  G$7:N1  pas
N2  G$7:N2  pas
N3  G$7:N3  pas
N4  G$7:N4  pas
N5  G$7:N5  pas
N6  G$7:N6  pas
N7  G$7:N7  pas
N8  G$7:N8  pas
N34  G$7:N34  pas
N35  G$7:N35  pas
N36  G$7:N36  pas
N37  G$7:N37  pas
N38  G$7:N38  pas
N39  G$7:N39  pas
N40  G$7:N40  pas
N41  G$7:N41  pas
N42  G$7:N42  pas
P1  G$7:P1  pas
P2  G$7:P2  pas
P3  G$7:P3  pas
P4  G$7:P4  pas
P5  G$7:P5  pas
P6  G$7:P6  pas
P7  G$7:P7  pas
P8  G$7:P8  pas
P35  G$7:P35  pas
P36  G$7:P36  pas
P37  G$7:P37  pas
P38  G$7:P38  pas
P39  G$7:P39  pas
P40  G$7:P40  pas
P41  G$7:P41  pas
P42  G$7:P42  pas
R1  G$8:R1  pas
R2  G$8:R2  pas
R3  G$8:R3  pas
R4  G$8:R4  pas
R5  G$8:R5  pas
R6  G$8:R6  pas
R7  G$8:R7  pas
R8  G$8:R8  pas
R35  G$8:R35  pas
R36  G$8:R36  pas
R37  G$8:R37  pas
R38  G$8:R38  pas
R39  G$8:R39  pas
R40  G$8:R40  pas
R41  G$8:R41  pas
R42  G$8:R42  pas
T1  G$8:T1  pas
T2  G$8:T2  pas
T3  G$8:T3  pas
T4  G$8:T4  pas
T5  G$8:T5  pas
T6  G$8:T6  pas
T7  G$8:T7  pas
T8  G$8:T8  pas
T35  G$8:T35  pas
T36  G$8:T36  pas
T37  G$8:T37  pas
T38  G$8:T38  pas
T39  G$8:T39  pas
T40  G$8:T40  pas
T41  G$8:T41  pas
T42  G$8:T42  pas
U1  G$9:U1  pas
U2  G$9:U2  pas
U3  G$9:U3  pas
U4  G$9:U4  pas
U5  G$9:U5  pas
U6  G$9:U6  pas
U7  G$9:U7  pas
U8  G$9:U8  pas
U35  G$9:U35  pas
U36  G$9:U36  pas
U37  G$9:U37  pas
U38  G$9:U38  pas
U39  G$9:U39  pas
U40  G$9:U40  pas
U41  G$9:U41  pas
U42  G$9:U42  pas
V1  G$9:V1  pas
V2  G$9:V2  pas
V3  G$9:V3  pas
V4  G$9:V4  pas
V5  G$9:V5  pas
V6  G$9:V6  pas
V7  G$9:V7  pas
V8  G$9:V8  pas
V35  G$9:V35  pas
V36  G$9:V36  pas
V37  G$9:V37  pas
V38  G$9:V38  pas
V39  G$9:V39  pas
V40  G$9:V40  pas
V41  G$9:V41  pas
V42  G$9:V42  pas
W1  G$10:W1  pas
W2  G$10:W2  pas
W3  G$10:W3  pas
W4  G$10:W4  pas
W5  G$10:W5  pas
W6  G$10:W6  pas
W7  G$10:W7  pas
W8  G$10:W8  pas
W35  G$10:W35  pas
W36  G$10:W36  pas
W37  G$10:W37  pas
W38  G$10:W38  pas
W39  G$10:W39  pas
W40  G$10:W40  pas
W41  G$10:W41  pas
W42  G$10:W42  pas
Y3  G$10:Y3  pas
Y4  G$10:Y4  pas
Y5  G$10:Y5  pas
Y6  G$10:Y6  pas
Y7  G$10:Y7  pas
Y8  G$10:Y8  pas
Y35  G$10:Y35  pas
Y36  G$10:Y36  pas
Y37  G$10:Y37  pas
Y38  G$10:Y38  pas
Y39  G$10:Y39  pas
Y40  G$10:Y40  pas

## Footprint TE_2287402-1 (pad centres in mm)
smd 0.429 x 0.429: A4 16.188,-18.288; A5 15.273,-18.288; A6 14.359,-18.288; A7 13.444,-18.288; A11 9.787,-18.288; A12 8.872,-18.288; A13 7.958,-18.288; A14 7.044,-18.288; A15 6.129,-18.288; A16 5.215,-18.288; A17 4.3,-18.288; A18 3.386,-18.288; A23 -1.186,-18.288; A24 -2.1,-18.288; A25 -3.015,-18.288; A26 -3.929,-18.288; A27 -4.844,-18.288; A28 -5.758,-18.288; A29 -6.672,-18.288; A30 -7.587,-18.288; AA3 17.102,0; AA4 16.188,0; AA5 15.273,0; AA6 14.359,0; AA7 13.444,0; AA8 12.53,0; AA35 -12.53,0; AA36 -13.444,0; AA37 -14.359,0; AA38 -15.273,0; AA39 -16.188,0; AA40 -17.102,0; AB3 17.102,0.914; AB4 16.188,0.914; AB5 15.273,0.914; AB6 14.359,0.914; AB7 13.444,0.914; AB8 12.53,0.914; AB35 -12.53,0.914; AB36 -13.444,0.914; AB37 -14.359,0.914; AB38 -15.273,0.914; AB39 -16.188,0.914; AB40 -17.102,0.914; AC1 18.931,1.829; AC2 18.016,1.829; AC3 17.102,1.829; AC4 16.188,1.829; AC5 15.273,1.829; AC6 14.359,1.829; AC7 13.444,1.829; AC8 12.53,1.829; AC35 -12.53,1.829; AC36 -13.444,1.829; AC37 -14.359,1.829; AC38 -15.273,1.829; AC39 -16.188,1.829; AC40 -17.102,1.829; AC41 -18.016,1.829; AC42 -18.931,1.829; AD1 18.931,2.743; AD2 18.016,2.743; AD3 17.102,2.743; AD4 16.188,2.743; AD5 15.273,2.743; AD6 14.359,2.743; AD7 13.444,2.743; AD8 12.53,2.743; AD35 -12.53,2.743; AD36 -13.444,2.743; AD37 -14.359,2.743; AD38 -15.273,2.743; AD39 -16.188,2.743; AD40 -17.102,2.743; AD41 -18.016,2.743; AD42 -18.931,2.743; AE1 18.931,3.658; AE2 18.016,3.658; AE3 17.102,3.658; AE4 16.188,3.658; AE5 15.273,3.658; AE6 14.359,3.658; AE7 13.444,3.658; AE8 12.53,3.658; AE35 -12.53,3.658; AE36 -13.444,3.658; AE37 -14.359,3.658; AE38 -15.273,3.658; AE39 -16.188,3.658; AE40 -17.102,3.658; AE41 -18.016,3.658; AE42 -18.931,3.658; AF1 18.931,4.572; AF2 18.016,4.572; AF3 17.102,4.572; AF4 16.188,4.572; AF5 15.273,4.572; AF6 14.359,4.572; AF7 13.444,4.572; AF8 12.53,4.572; AF35 -12.53,4.572; AF36 -13.444,4.572; AF37 -14.359,4.572; AF38 -15.273,4.572; AF39 -16.188,4.572; AF40 -17.102,4.572; AF41 -18.016,4.572; AF42 -18.931,4.572; AG1 18.931,5.486; AG2 18.016,5.486; AG3 17.102,5.486; AG4 16.188,5.486; AG5 15.273,5.486; AG6 14.359,5.486; AG7 13.444,5.486; AG8 12.53,5.486; AG35 -12.53,5.486; AG36 -13.444,5.486; AG37 -14.359,5.486; AG38 -15.273,5.486; AG39 -16.188,5.486; AG40 -17.102,5.486; AG41 -18.016,5.486; AG42 -18.931,5.486; AH1 18.931,6.401; AH2 18.016,6.401; AH3 17.102,6.401; AH4 16.188,6.401; AH5 15.273,6.401; AH6 14.359,6.401; AH7 13.444,6.401; AH8 12.53,6.401; AH35 -12.53,6.401; AH36 -13.444,6.401; AH37 -14.359,6.401; AH38 -15.273,6.401; AH39 -16.188,6.401; AH40 -17.102,6.401; AH41 -18.016,6.401; AH42 -18.931,6.401; AJ1 18.931,7.315; AJ2 18.016,7.315; AJ3 17.102,7.315; AJ4 16.188,7.315; AJ5 15.273,7.315; AJ6 14.359,7.315; AJ7 13.444,7.315; AJ8 12.53,7.315; AJ9 11.616,7.315; AJ35 -12.53,7.315; AJ36 -13.444,7.315; AJ37 -14.359,7.315; AJ38 -15.273,7.315; AJ39 -16.188,7.315; AJ40 -17.102,7.315; AJ41 -18.016,7.315; AJ42 -18.931,7.315; AK1 18.931,8.23; AK2 18.016,8.23; AK3 17.102,8.23; AK4 16.188,8.23; AK5 15.273,8.23; AK6 14.359,8.23; AK7 13.444,8.23; AK8 12.53,8.23; AK9 11.616,8.23; AK10 10.701,8.23; AK13 7.587,8.23; AK14 6.672,8.23; AK15 5.758,8.23; AK16 4.844,8.23; AK17 3.929,8.23; AK18 3.015,8.23; AK19 2.1,8.23; AK20 1.186,8.23; AK21 0.272,8.23; AK22 -0.643,8.23; AK23 -1.557,8.23; AK24 -2.472,8.23; AK25 -3.386,8.23; AK26 -4.3,8.23; AK27 -5.215,8.23; AK28 -6.129,8.23; AK29 -7.044,8.23; AK30 -7.958,8.23; AK31 -8.872,8.23; AK32 -9.787,8.23; AK33 -10.701,8.23; AK34 -11.616,8.23; AK35 -12.53,8.23; AK36 -13.444,8.23; AK37 -14.359,8.23; AK38 -15.273,8.23; AK39 -16.188,8.23; AK40 -17.102,8.23; AK41 -18.016,8.23; AK42 -18.931,8.23; AL1 18.931,9.144; AL2 18.016,9.144; AL3 17.102,9.144; AL4 16.188,9.144; AL5 15.273,9.144; AL6 14.359,9.144; AL7 13.444,9.144; AL8 12.53,9.144; AL9 11.616,9.144; AL10 10.701,9.144; AL13 7.587,9.144; AL14 6.672,9.144; AL15 5.758,9.144; AL16 4.844,9.144; AL17 3.929,9.144; AL18 3.015,9.144; AL19 2.1,9.144; AL20 1.186,9.144; AL21 0.272,9.144; AL22 -0.643,9.144; AL23 -1.557,9.144; AL24 -2.472,9.144; AL25 -3.386,9.144; AL26 -4.3,9.144; AL27 -5.215,9.144; AL28 -6.129,9.144; AL29 -7.044,9.144; AL30 -7.958,9.144; AL31 -8.872,9.144; AL32 -9.787,9.144; AL33 -10.701,9.144; AL34 -11.616,9.144; AL35 -12.53,9.144; AL36 -13.444,9.144; AL37 -14.359,9.144; AL38 -15.273,9.144; AL39 -16.188,9.144; AL40 -17.102,9.144; AL41 -18.016,9.144; AL42 -18.931,9.144; AM1 18.931,10.058; AM2 18.016,10.058; AM3 17.102,10.058; AM4 16.188,10.058; AM5 15.273,10.058; AM6 14.359,10.058; AM7 13.444,10.058; AM8 12.53,10.058; AM9 11.616,10.058; AM10 10.701,10.058; AM13 7.587,10.058; AM14 6.672,10.058; AM15 5.758,10.058; AM16 4.844,10.058; AM17 3.929,10.058; AM18 3.015,10.058; AM19 2.1,10.058; AM20 1.186,10.058; AM21 0.272,10.058; AM22 -0.643,10.058; AM23 -1.557,10.058; AM24 -2.472,10.058; AM25 -3.386,10.058; AM26 -4.3,10.058; AM27 -5.215,10.058; AM28 -6.129,10.058; AM29 -7.044,10.058; AM30 -7.958,10.058; AM31 -8.872,10.058; AM32 -9.787,10.058; AM33 -10.701,10.058; AM34 -11.616,10.058; AM35 -12.53,10.058; AM36 -13.444,10.058; AM37 -14.359,10.058; AM38 -15.273,10.058; AM39 -16.188,10.058; AM40 -17.102,10.058; AM41 -18.016,10.058; AM42 -18.931,10.058; AN1 18.931,10.973; AN2 18.016,10.973; AN3 17.102,10.973; AN4 16.188,10.973; AN5 15.273,10.973; AN6 14.359,10.973; AN7 13.444,10.973; AN8 12.53,10.973; AN9 11.616,10.973; AN10 10.701,10.973; AN13 7.587,10.973; AN14 6.672,10.973; AN15 5.758,10.973; AN16 4.844,10.973; AN17 3.929,10.973; AN18 3.015,10.973; AN19 2.1,10.973; AN20 1.186,10.973; AN21 0.272,10.973; AN22 -0.643,10.973; AN23 -1.557,10.973; AN24 -2.472,10.973; AN25 -3.386,10.973; AN26 -4.3,10.973; AN27 -5.215,10.973; AN28 -6.129,10.973; AN29 -7.044,10.973; AN30 -7.958,10.973; AN31 -8.872,10.973; AN32 -9.787,10.973; AN33 -10.701,10.973; AN34 -11.616,10.973; AN35 -12.53,10.973; AN36 -13.444,10.973; AN37 -14.359,10.973; AN38 -15.273,10.973; AN39 -16.188,10.973; AN40 -17.102,10.973; AN41 -18.016,10.973; AN42 -18.931,10.973; AP1 18.931,11.887; AP2 18.016,11.887; AP3 17.102,11.887; AP4 16.188,11.887; AP5 15.273,11.887; AP6 14.359,11.887; AP7 13.444,11.887; AP8 12.53,11.887; AP9 11.616,11.887; AP10 10.701,11.887; AP13 7.587,11.887; AP14 6.672,11.887; AP15 5.758,11.887; AP16 4.844,11.887; AP17 3.929,11.887; AP18 3.015,11.887; AP19 2.1,11.887; AP20 1.186,11.887; AP21 0.272,11.887; AP22 -0.643,11.887; AP23 -1.557,11.887; AP24 -2.472,11.887; AP25 -3.386,11.887; AP26 -4.3,11.887; AP27 -5.215,11.887; AP28 -6.129,11.887; AP29 -7.044,11.887; AP30 -7.958,11.887; AP31 -8.872,11.887; AP32 -9.787,11.887; AP33 -10.701,11.887; AP34 -11.616,11.887; AP35 -12.53,11.887; AP36 -13.444,11.887; AP37 -14.359,11.887; AP38 -15.273,11.887; AP39 -16.188,11.887; AP40 -17.102,11.887; AP41 -18.016,11.887; AP42 -18.931,11.887; AR1 18.931,12.802; AR2 18.016,12.802; AR3 17.102,12.802; AR4 16.188,12.802; AR5 15.273,12.802; AR6 14.359,12.802; AR7 13.444,12.802; AR8 12.53,12.802; AR9 11.616,12.802; AR10 10.701,12.802; AR13 7.587,12.802; AR14 6.672,12.802; AR15 5.758,12.802; AR16 4.844,12.802; AR17 3.929,12.802; AR18 3.015,12.802; AR19 2.1,12.802; AR20 1.186,12.802; AR21 0.272,12.802; AR22 -0.643,12.802; AR23 -1.557,12.802; AR24 -2.472,12.802; AR25 -3.386,12.802; AR26 -4.3,12.802; AR27 -5.215,12.802; AR28 -6.129,12.802; AR29 -7.044,12.802; AR30 -7.958,12.802; AR31 -8.872,12.802; AR32 -9.787,12.802; AR33 -10.701,12.802; AR34 -11.616,12.802; AR35 -12.53,12.802; AR36 -13.444,12.802; AR37 -14.359,12.802; AR38 -15.273,12.802; AR39 -16.188,12.802; AR40 -17.102,12.802; AR41 -18.016,12.802; AR42 -18.931,12.802; AT1 18.931,13.716; AT2 18.016,13.716; AT3 17.102,13.716; AT4 16.188,13.716; AT5 15.273,13.716; AT6 14.359,13.716; AT7 13.444,13.716; AT8 12.53,13.716; AT9 11.616,13.716; AT10 10.701,13.716; AT13 7.587,13.716; AT14 6.672,13.716; AT15 5.758,13.716; AT16 4.844,13.716; AT17 3.929,13.716; AT18 3.015,13.716; AT19 2.1,13.716; AT20 1.186,13.716; AT21 0.272,13.716; AT22 -0.643,13.716; AT23 -1.557,13.716; AT24 -2.472,13.716; AT25 -3.386,13.716; AT26 -4.3,13.716; AT27 -5.215,13.716; AT28 -6.129,13.716; AT29 -7.044,13.716; AT30 -7.958,13.716; AT31 -8.872,13.716; AT32 -9.787,13.716; AT33 -10.701,13.716; AT34 -11.616,13.716; AT35 -12.53,13.716; AT36 -13.444,13.716; AT37 -14.359,13.716; AT38 -15.273,13.716; AT39 -16.188,13.716; AT40 -17.102,13.716; AT41 -18.016,13.716; AT42 -18.931,13.716; AU1 18.931,14.63; AU2 18.016,14.63; AU3 17.102,14.63; AU4 16.188,14.63; AU5 15.273,14.63; AU6 14.359,14.63; AU7 13.444,14.63; AU8 12.53,14.63; AU9 11.616,14.63; AU10 10.701,14.63; AU13 7.587,14.63; AU14 6.672,14.63; AU15 5.758,14.63; AU16 4.844,14.63; AU17 3.929,14.63; AU18 3.015,14.63; AU19 2.1,14.63; AU20 1.186,14.63; AU21 0.272,14.63; AU22 -0.643,14.63; AU23 -1.557,14.63; AU24 -2.472,14.63; AU25 -3.386,14.63; AU26 -4.3,14.63; AU27 -5.215,14.63; AU28 -6.129,14.63; AU29 -7.044,14.63; AU30 -7.958,14.63; AU31 -8.872,14.63; AU32 -9.787,14.63; AU33 -10.701,14.63; AU34 -11.616,14.63; AU35 -12.53,14.63; AU36 -13.444,14.63; AU37 -14.359,14.63; AU38 -15.273,14.63; AU39 -16.188,14.63; AU40 -17.102,14.63; AU41 -18.016,14.63; AU42 -18.931,14.63; AV1 18.931,15.545; AV2 18.016,15.545; AV3 17.102,15.545; AV4 16.188,15.545; AV5 15.273,15.545; AV6 14.359,15.545; AV7 13.444,15.545; AV8 12.53,15.545; AV9 11.616,15.545; AV10 10.701,15.545; AV13 7.587,15.545; AV14 6.672,15.545; AV15 5.758,15.545; AV16 4.844,15.545; AV17 3.929,15.545; AV18 3.015,15.545; AV19 2.1,15.545; AV20 1.186,15.545; AV21 0.272,15.545; AV22 -0.643,15.545; AV23 -1.557,15.545; AV24 -2.472,15.545; AV25 -3.386,15.545; AV26 -4.3,15.545; AV27 -5.215,15.545; AV28 -6.129,15.545; AV29 -7.044,15.545; AV30 -7.958,15.545; AV31 -8.872,15.545; AV32 -9.787,15.545; AV33 -10.701,15.545; AV34 -11.616,15.545; AV35 -12.53,15.545; AV36 -13.444,15.545; AV37 -14.359,15.545; AV38 -15.273,15.545; AV39 -16.188,15.545; AV40 -17.102,15.545; AV41 -18.016,15.545; AV42 -18.931,15.545; AW2 18.016,16.459; AW3 17.102,16.459; AW4 16.188,16.459; AW5 15.273,16.459; AW6 14.359,16.459; AW7 13.444,16.459; AW8 12.53,16.459; AW9 11.616,16.459; AW10 10.701,16.459; AW13 7.587,16.459; AW14 6.672,16.459; AW15 5.758,16.459; AW16 4.844,16.459; AW17 3.929,16.459; AW18 3.015,16.459; AW19 2.1,16.459; AW20 1.186,16.459; AW21 0.272,16.459; AW22 -0.643,16.459; AW23 -1.557,16.459; AW24 -2.472,16.459; AW25 -3.386,16.459; AW26 -4.3,16.459; AW27 -5.215,16.459; AW28 -6.129,16.459; AW29 -7.044,16.459; AW30 -7.958,16.459; AW31 -8.872,16.459; AW32 -9.787,16.459; AW33 -10.701,16.459; AW34 -11.616,16.459; AW35 -12.53,16.459; AW36 -13.444,16.459; AW37 -14.359,16.459; AW38 -15.273,16.459; AW39 -16.188,16.459; AW40 -17.102,16.459; AW41 -18.016,16.459; AY3 17.102,17.374; AY4 16.188,17.374; AY5 15.273,17.374; AY6 14.359,17.374; AY7 13.444,17.374; AY8 12.53,17.374; AY9 11.616,17.374; AY10 10.701,17.374; AY13 7.587,17.374; AY14 6.672,17.374; AY15 5.758,17.374; AY16 4.844,17.374; AY17 3.929,17.374; AY18 3.015,17.374; AY19 2.1,17.374; AY20 1.186,17.374; AY25 -3.386,17.374; AY26 -4.3,17.374; AY27 -5.215,17.374; AY28 -6.129,17.374; AY29 -7.044,17.374; AY30 -7.958,17.374; AY31 -8.872,17.374; AY32 -9.787,17.374; AY33 -10.701,17.374; AY34 -11.616,17.374; AY35 -12.53,17.374; AY36 -13.444,17.374; AY37 -14.359,17.374; AY38 -15.273,17.374; AY39 -16.188,17.374; AY40 -17.102,17.374; B3 17.102,-17.374; B4 16.188,-17.374; B5 15.273,-17.374; B6 14.359,-17.374; B7 13.444,-17.374; B8 12.53,-17.374; B9 11.616,-17.374; B10 10.701,-17.374; B11 9.787,-17.374; B12 8.872,-17.374; B13 7.958,-17.374; B14 7.044,-17.374; B15 6.129,-17.374; B16 5.215,-17.374; B17 4.3,-17.374; B18 3.386,-17.374; B23 -1.186,-17.374; B24 -2.1,-17.374; B25 -3.015,-17.374; B26 -3.929,-17.374; B27 -4.844,-17.374; B28 -5.758,-17.374; B29 -6.672,-17.374; B30 -7.587,-17.374; BA13 7.587,18.288; BA14 6.672,18.288; BA15 5.758,18.288; BA16 4.844,18.288; BA17 3.929,18.288; BA18 3.015,18.288; BA19 2.1,18.288; BA20 1.186,18.288; BA25 -3.386,18.288; BA26 -4.3,18.288; BA27 -5.215,18.288; BA28 -6.129,18.288; BA29 -7.044,18.288; BA30 -7.958,18.288; BA31 -8.872,18.288; BA32 -9.787,18.288; BA33 -10.701,18.288; C2 18.016,-16.459; C3 17.102,-16.459; C4 16.188,-16.459; C5 15.273,-16.459; C6 14.359,-16.459; C7 13.444,-16.459; C8 12.53,-16.459; C9 11.616,-16.459; C10 10.701,-16.459; C11 9.787,-16.459; C12 8.872,-16.459; C13 7.958,-16.459; C14 7.044,-16.459; C15 6.129,-16.459; C16 5.215,-16.459; C17 4.3,-16.459; C18 3.386,-16.459; C19 2.472,-16.459; C20 1.557,-16.459; C21 0.643,-16.459; C22 -0.272,-16.459; C23 -1.186,-16.459; C24 -2.1,-16.459; C25 -3.015,-16.459; C26 -3.929,-16.459; C27 -4.844,-16.459; C28 -5.758,-16.459; C29 -6.672,-16.459; C30 -7.587,-16.459; C33 -10.701,-16.459; C34 -11.616,-16.459; C35 -12.53,-16.459; C36 -13.444,-16.459; C37 -14.359,-16.459; C38 -15.273,-16.459; C39 -16.188,-16.459; C40 -17.102,-16.459; C41 -18.016,-16.459; D1 18.931,-15.545; D2 18.016,-15.545; D3 17.102,-15.545; D4 16.188,-15.545; D5 15.273,-15.545; D6 14.359,-15.545; D7 13.444,-15.545; D8 12.53,-15.545; D9 11.616,-15.545; D10 10.701,-15.545; D11 9.787,-15.545; D12 8.872,-15.545; D13 7.958,-15.545; D14 7.044,-15.545; D15 6.129,-15.545; D16 5.215,-15.545; D17 4.3,-15.545; D18 3.386,-15.545; D19 2.472,-15.545; D20 1.557,-15.545; D21 0.643,-15.545; D22 -0.272,-15.545; D23 -1.186,-15.545; D24 -2.1,-15.545; D25 -3.015,-15.545; D26 -3.929,-15.545; D27 -4.844,-15.545; D28 -5.758,-15.545; D29 -6.672,-15.545; D30 -7.587,-15.545; D33 -10.701,-15.545; D34 -11.616,-15.545; D35 -12.53,-15.545; D36 -13.444,-15.545; D37 -14.359,-15.545; D38 -15.273,-15.545; D39 -16.188,-15.545; D40 -17.102,-15.545; D41 -18.016,-15.545; D42 -18.931,-15.545; E1 18.931,-14.63; E2 18.016,-14.63; E3 17.102,-14.63; E4 16.188,-14.63; E5 15.273,-14.63; E6 14.359,-14.63; E7 13.444,-14.63; E8 12.53,-14.63; E9 11.616,-14.63; E10 10.701,-14.63; E11 9.787,-14.63; E12 8.872,-14.63; E13 7.958,-14.63; E14 7.044,-14.63; E15 6.129,-14.63; E16 5.215,-14.63; E17 4.3,-14.63; E18 3.386,-14.63; E19 2.472,-14.63; E20 1.557,-14.63; E21 0.643,-14.63; E22 -0.272,-14.63; E23 -1.186,-14.63; E24 -2.1,-14.63; E25 -3.015,-14.63; E26 -3.929,-14.63; E27 -4.844,-14.63; E28 -5.758,-14.63; E29 -6.672,-14.63; E30 -7.587,-14.63; E33 -10.701,-14.63; E34 -11.616,-14.63; E35 -12.53,-14.63; E36 -13.444,-14.63; E37 -14.359,-14.63; E38 -15.273,-14.63; E39 -16.188,-14.63; E40 -17.102,-14.63; E41 -18.016,-14.63; E42 -18.931,-14.63; F1 18.931,-13.716; F2 18.016,-13.716; F3 17.102,-13.716; F4 16.188,-13.716; F5 15.273,-13.716; F6 14.359,-13.716; F7 13.444,-13.716; F8 12.53,-13.716; F9 11.616,-13.716; F10 10.701,-13.716; F11 9.787,-13.716; F12 8.872,-13.716; F13 7.958,-13.716; F14 7.044,-13.716; F15 6.129,-13.716; F16 5.215,-13.716; F17 4.3,-13.716; F18 3.386,-13.716; F19 2.472,-13.716; F20 1.557,-13.716; F21 0.643,-13.716; F22 -0.272,-13.716; F23 -1.186,-13.716; F24 -2.1,-13.716; F25 -3.015,-13.716; F26 -3.929,-13.716; F27 -4.844,-13.716; F28 -5.758,-13.716; F29 -6.672,-13.716; F30 -7.587,-13.716; F33 -10.701,-13.716; F34 -11.616,-13.716; F35 -12.53,-13.716; F36 -13.444,-13.716; F37 -14.359,-13.716; F38 -15.273,-13.716; F39 -16.188,-13.716; F40 -17.102,-13.716; F41 -18.016,-13.716; F42 -18.931,-13.716; G1 18.931,-12.802; G2 18.016,-12.802; G3 17.102,-12.802; G4 16.188,-12.802; G5 15.273,-12.802; G6 14.359,-12.802; G7 13.444,-12.802; G8 12.53,-12.802; G9 11.616,-12.802; G10 10.701,-12.802; G11 9.787,-12.802; G12 8.872,-12.802; G13 7.958,-12.802; G14 7.044,-12.802; G15 6.129,-12.802; G16 5.215,-12.802; G17 4.3,-12.802; G18 3.386,-12.802; G19 2.472,-12.802; G20 1.557,-12.802; G21 0.643,-12.802; G22 -0.272,-12.802; G23 -1.186,-12.802; G24 -2.1,-12.802; G25 -3.015,-12.802; G26 -3.929,-12.802; G27 -4.844,-12.802; G28 -5.758,-12.802; G29 -6.672,-12.802; G30 -7.587,-12.802; G33 -10.701,-12.802; G34 -11.616,-12.802; G35 -12.53,-12.802; G36 -13.444,-12.802; G37 -14.359,-12.802; G38 -15.273,-12.802; G39 -16.188,-12.802; G40 -17.102,-12.802; G41 -18.016,-12.802; G42 -18.931,-12.802; H1 18.931,-11.887; H2 18.016,-11.887; H3 17.102,-11.887; H4 16.188,-11.887; H5 15.273,-11.887; H6 14.359,-11.887; H7 13.444,-11.887; H8 12.53,-11.887; H9 11.616,-11.887; H10 10.701,-11.887; H11 9.787,-11.887; H12 8.872,-11.887; H13 7.958,-11.887; H14 7.044,-11.887; H15 6.129,-11.887; H16 5.215,-11.887; H17 4.3,-11.887; H18 3.386,-11.887; H19 2.472,-11.887; H20 1.557,-11.887; H21 0.643,-11.887; H22 -0.272,-11.887; H23 -1.186,-11.887; H24 -2.1,-11.887; H25 -3.015,-11.887; H26 -3.929,-11.887; H27 -4.844,-11.887; H28 -5.758,-11.887; H29 -6.672,-11.887; H30 -7.587,-11.887; H33 -10.701,-11.887; H34 -11.616,-11.887; H35 -12.53,-11.887; H36 -13.444,-11.887; H37 -14.359,-11.887; H38 -15.273,-11.887; H39 -16.188,-11.887; H40 -17.102,-11.887; H41 -18.016,-11.887; H42 -18.931,-11.887; J1 18.931,-10.973; J2 18.016,-10.973; J3 17.102,-10.973; J4 16.188,-10.973; J5 15.273,-10.973; J6 14.359,-10.973; J7 13.444,-10.973; J8 12.53,-10.973; J9 11.616,-10.973; J10 10.701,-10.973; J11 9.787,-10.973; J12 8.872,-10.973; J13 7.958,-10.973; J14 7.044,-10.973; J15 6.129,-10.973; J16 5.215,-10.973; J17 4.3,-10.973; J18 3.386,-10.973; J19 2.472,-10.973; J20 1.557,-10.973; J21 0.643,-10.973; J22 -0.272,-10.973; J23 -1.186,-10.973; J24 -2.1,-10.973; J25 -3.015,-10.973; J26 -3.929,-10.973; J27 -4.844,-10.973; J28 -5.758,-10.973; J29 -6.672,-10.973; J30 -7.587,-10.973; J33 -10.701,-10.973; J34 -11.616,-10.973; J35 -12.53,-10.973; J36 -13.444,-10.973; J37 -14.359,-10.973; J38 -15.273,-10.973; J39 -16.188,-10.973; J40 -17.102,-10.973; J41 -18.016,-10.973; J42 -18.931,-10.973; K1 18.931,-10.058; K2 18.016,-10.058; K3 17.102,-10.058; K4 16.188,-10.058; K5 15.273,-10.058; K6 14.359,-10.058; K7 13.444,-10.058; K8 12.53,-10.058; K9 11.616,-10.058; K10 10.701,-10.058; K11 9.787,-10.058; K12 8.872,-10.058; K13 7.958,-10.058; K14 7.044,-10.058; K15 6.129,-10.058; K16 5.215,-10.058; K17 4.3,-10.058; K18 3.386,-10.058; K19 2.472,-10.058; K20 1.557,-10.058; K21 0.643,-10.058; K22 -0.272,-10.058; K23 -1.186,-10.058; K24 -2.1,-10.058; K25 -3.015,-10.058; K26 -3.929,-10.058; K27 -4.844,-10.058; K28 -5.758,-10.058; K29 -6.672,-10.058; K30 -7.587,-10.058; K33 -10.701,-10.058; K34 -11.616,-10.058; K35 -12.53,-10.058; K36 -13.444,-10.058; K37 -14.359,-10.058; K38 -15.273,-10.058; K39 -16.188,-10.058; K40 -17.102,-10.058; K41 -18.016,-10.058; K42 -18.931,-10.058; L1 18.931,-9.144; L2 18.016,-9.144; L3 17.102,-9.144; L4 16.188,-9.144; L5 15.273,-9.144; L6 14.359,-9.144; L7 13.444,-9.144; L8 12.53,-9.144; L9 11.616,-9.144; L10 10.701,-9.144; L11 9.787,-9.144; L12 8.872,-9.144; L13 7.958,-9.144; L14 7.044,-9.144; L15 6.129,-9.144; L16 5.215,-9.144; L17 4.3,-9.144; L18 3.386,-9.144; L19 2.472,-9.144; L20 1.557,-9.144; L21 0.643,-9.144; L22 -0.272,-9.144; L23 -1.186,-9.144; L24 -2.1,-9.144; L25 -3.015,-9.144; L26 -3.929,-9.144; L27 -4.844,-9.144; L28 -5.758,-9.144; L29 -6.672,-9.144; L30 -7.587,-9.144; L33 -10.701,-9.144; L34 -11.616,-9.144; L35 -12.53,-9.144; L36 -13.444,-9.144; L37 -14.359,-9.144; L38 -15.273,-9.144; L39 -16.188,-9.144; L40 -17.102,-9.144; L41 -18.016,-9.144; L42 -18.931,-9.144; M1 18.931,-8.23; M2 18.016,-8.23; M3 17.102,-8.23; M4 16.188,-8.23; M5 15.273,-8.23; M6 14.359,-8.23; M7 13.444,-8.23; M8 12.53,-8.23; M9 11.616,-8.23; M10 10.701,-8.23; M11 9.787,-8.23; M12 8.872,-8.23; M13 7.958,-8.23; M14 7.044,-8.23; M15 6.129,-8.23; M16 5.215,-8.23; M17 4.3,-8.23; M18 3.386,-8.23; M19 2.472,-8.23; M20 1.557,-8.23; M21 0.643,-8.23; M22 -0.272,-8.23; M23 -1.186,-8.23; M24 -2.1,-8.23; M25 -3.015,-8.23; M26 -3.929,-8.23; M27 -4.844,-8.23; M28 -5.758,-8.23; M29 -6.672,-8.23; M30 -7.587,-8.23; M33 -10.701,-8.23; M34 -11.616,-8.23; M35 -12.53,-8.23; M36 -13.444,-8.23; M37 -14.359,-8.23; M38 -15.273,-8.23; M39 -16.188,-8.23; M40 -17.102,-8.23; M41 -18.016,-8.23; M42 -18.931,-8.23; N1 18.931,-7.315; N2 18.016,-7.315; N3 17.102,-7.315; N4 16.188,-7.315; N5 15.273,-7.315; N6 14.359,-7.315; N7 13.444,-7.315; N8 12.53,-7.315; N34 -11.616,-7.315; N35 -12.53,-7.315; N36 -13.444,-7.315; N37 -14.359,-7.315; N38 -15.273,-7.315; N39 -16.188,-7.315; N40 -17.102,-7.315; N41 -18.016,-7.315; N42 -18.931,-7.315; P1 18.931,-6.401; P2 18.016,-6.401; P3 17.102,-6.401; P4 16.188,-6.401; P5 15.273,-6.401; P6 14.359,-6.401; P7 13.444,-6.401; P8 12.53,-6.401; P35 -12.53,-6.401; P36 -13.444,-6.401; P37 -14.359,-6.401; P38 -15.273,-6.401; P39 -16.188,-6.401; P40 -17.102,-6.401; P41 -18.016,-6.401; P42 -18.931,-6.401; R1 18.931,-5.486; R2 18.016,-5.486; R3 17.102,-5.486; R4 16.188,-5.486; R5 15.273,-5.486; R6 14.359,-5.486; R7 13.444,-5.486; R8 12.53,-5.486; R35 -12.53,-5.486; R36 -13.444,-5.486; R37 -14.359,-5.486; R38 -15.273,-5.486; R39 -16.188,-5.486; R40 -17.102,-5.486; R41 -18.016,-5.486; R42 -18.931,-5.486; T1 18.931,-4.572; T2 18.016,-4.572; T3 17.102,-4.572; T4 16.188,-4.572; T5 15.273,-4.572; T6 14.359,-4.572; T7 13.444,-4.572; T8 12.53,-4.572; T35 -12.53,-4.572; T36 -13.444,-4.572; T37 -14.359,-4.572; T38 -15.273,-4.572; T39 -16.188,-4.572; T40 -17.102,-4.572; T41 -18.016,-4.572; T42 -18.931,-4.572; U1 18.931,-3.658; U2 18.016,-3.658; U3 17.102,-3.658; U4 16.188,-3.658; U5 15.273,-3.658; U6 14.359,-3.658; U7 13.444,-3.658; U8 12.53,-3.658; U35 -12.53,-3.658; U36 -13.444,-3.658; U37 -14.359,-3.658; U38 -15.273,-3.658; U39 -16.188,-3.658; U40 -17.102,-3.658; U41 -18.016,-3.658; U42 -18.931,-3.658; V1 18.931,-2.743; V2 18.016,-2.743; V3 17.102,-2.743; V4 16.188,-2.743; V5 15.273,-2.743; V6 14.359,-2.743; V7 13.444,-2.743; V8 12.53,-2.743; V35 -12.53,-2.743; V36 -13.444,-2.743; V37 -14.359,-2.743; V38 -15.273,-2.743; V39 -16.188,-2.743; V40 -17.102,-2.743; V41 -18.016,-2.743; V42 -18.931,-2.743; W1 18.931,-1.829; W2 18.016,-1.829; W3 17.102,-1.829; W4 16.188,-1.829; W5 15.273,-1.829; W6 14.359,-1.829; W7 13.444,-1.829; W8 12.53,-1.829; W35 -12.53,-1.829; W36 -13.444,-1.829; W37 -14.359,-1.829; W38 -15.273,-1.829; W39 -16.188,-1.829; W40 -17.102,-1.829; W41 -18.016,-1.829; W42 -18.931,-1.829; Y3 17.102,-0.914; Y4 16.188,-0.914; Y5 15.273,-0.914; Y6 14.359,-0.914; Y7 13.444,-0.914; Y8 12.53,-0.914; Y35 -12.53,-0.914; Y36 -13.444,-0.914; Y37 -14.359,-0.914; Y38 -15.273,-0.914; Y39 -16.188,-0.914; Y40 -17.102,-0.914
hole 3.8 at -25.81,-18
hole 3.8 at -25.81,18
hole 3.8 at 35.21,0